# Altium schematic symbol library UCC27712D.Schlib: 1 symbol
Pins are listed as number, name and electrical type; pins without a type are passive.

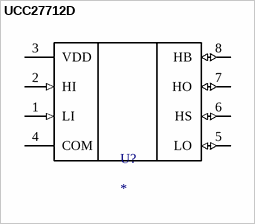
[diagram p0: symbol UCC27712D]

## UCC27712D
designator U?
1.8-A/2.8-A, 620V half bridge driver with interlock
pins: 1 LI (in), 2 HI (in), 3 VDD (power), 4 COM (power), 5 LO (io), 6 HS (io), 7 HO (io), 8 HB (io)